# EAGLE library part CH340G (library IC-Conversion)
CH340G SOIC16 USB to Serial TTL-RS232 converter IC Source: Datasheet <https://www.mpja.com/download/35227cpdata.pdf> Buy From: Robu.in <https://robu.in/product/ch340g-soic16-usb-to-serial-ttl-rs232-converter-ic/>
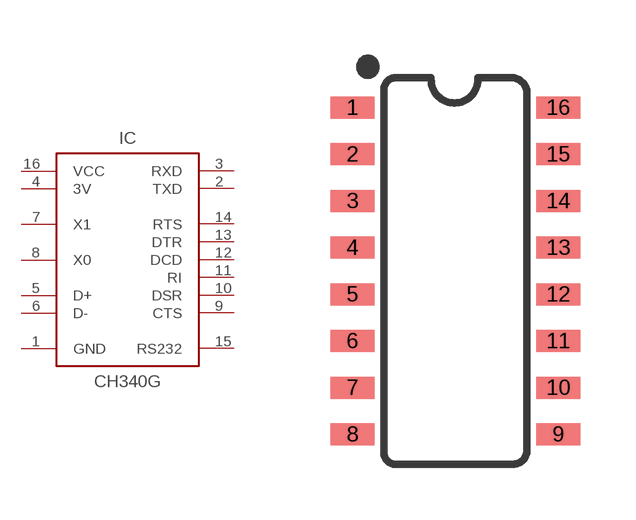
[diagram p1: symbol with the pads of SO16; footprint SO16]

Designator prefix IC

## CH340G (DATASHEET: value; DIGIKEY-PART-NUMBER: value; LINK: value; MANUFACTURER: value; MPN: value; TECHNOLOGY: value; UNIT-PRICE: value)  [SO16]
1  GND  pwr
2  TXD  out
3  RXD  in
4  3V  pwr
5  D+
6  D-
7  X1
8  X0
9  CTS
10  DSR
11  RI
12  DCD
13  DTR
14  RTS
15  RS232
16  VCC  pwr

## Footprint SO16 (pad centres in mm)
SOIC-16 Specifications: Pin count: 16 Width:0.15" Example device(s): HEX_CONVERTER
smd 1.2 x 0.6: 1 -2.8,4.445; 2 -2.8,3.175; 3 -2.8,1.905; 4 -2.8,0.635; 5 -2.8,-0.635; 6 -2.8,-1.905; 7 -2.8,-3.175; 8 -2.8,-4.445; 9 2.8,-4.445; 10 2.8,-3.175; 11 2.8,-1.905; 12 2.8,-0.635; 13 2.8,0.635; 14 2.8,1.905; 15 2.8,3.175; 16 2.8,4.445